# EAGLE library part 1P12T (library mb3_switches)
1P-12T Rotary
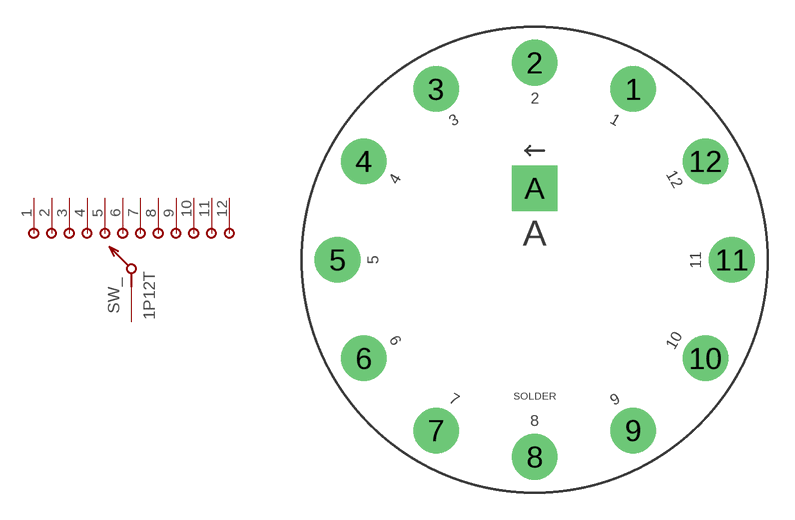
[diagram p1: symbol with the pads of 1P12T; footprint 1P12T]

Designator prefix SW_

## 1P12T  [1P12T]
1  1
2  2
3  3
4  4
5  5
6  6
7  7
8  8
9  9
10  10
11  11
12  12
A  A

## Footprint 1P12T (pad centres in mm)
Alpha SR2612F-0112 http://smallbear-electronics.mybigcommerce.com/26mm-enclosed-1p2-12t-0227b/
drill 1.6 pad 2.54: 1 5.5,9.526; 2 0,11; 3 -5.5,9.526; 4 -9.526,5.5; 5 -11,0; 6 -9.526,-5.5; 7 -5.5,-9.526; 8 0,-11; 9 5.5,-9.526; 10 9.526,-5.5; 11 11,0; 12 9.526,5.5
drill 1.6 pad 2.54 square: A 0,4